# Altium footprint library ECCM1E-16-20M.PcbLib: 1 footprints
Each footprint in its own frame and in the unit in brackets; x right, y up, seen from the top. Pads: shape width x height; smd on the part's side, far side on the other; paste and mask are expansions set on the pad; w line width, h text height; cw(c..) or ccw(c..) is an arc to the next point about the centre after c.
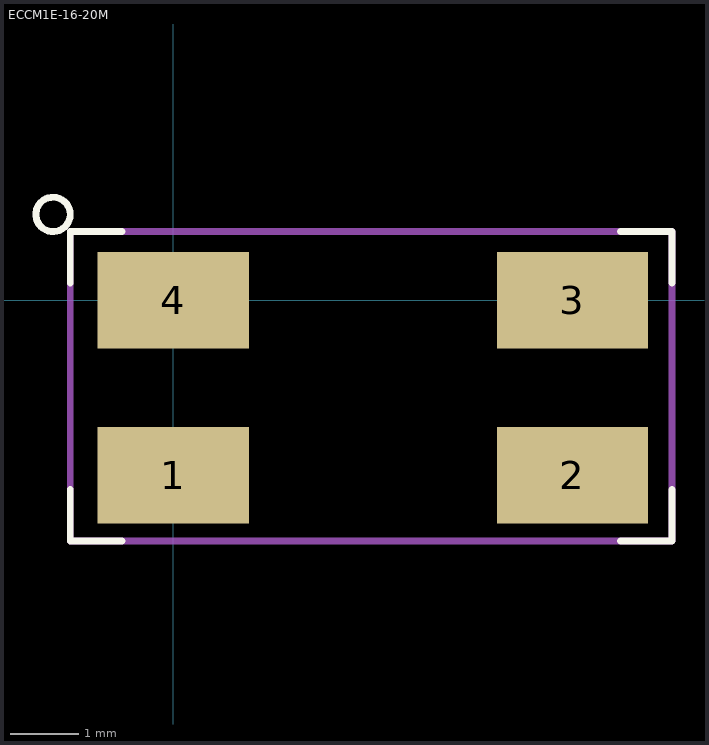
[diagram p0: the footprint, top view; thin cyan lines are the x and y axes]

## ECCM1E-16-20M [mm] "MIL-STD-883, Method 3015, Class 1, HBM: 1500V"
height 1.3
pads (4):
  rect 2.2x1.4 smd: 1(0,-2.54) 2(5.8,-2.54) 3(5.8,0) 4(0,0)
Top Overlay:
  circle w0.1: c-1.75,1.25 r0.25
  lines w0.1: -1.5,-2.75 -1.5,-3.5 -0.75,-3.5 ; -1.5,0.25 -1.5,1 -0.75,1 ; 6.5,-3.5 7.25,-3.5 7.25,-2.75 ; 6.5,1 7.25,1 7.25,0.25
Mechanical 13:
  circle w0.1: c-0.604,0.25 r0.354
Mechanical 15:
  lines w0.1: -1.5,-3.5 -1.5,1 7.25,1 7.25,-3.5 -1.5,-3.5
3D body: height 1.3, standoff 0, extent -1.5,-3.5 7.25,1